# Altium footprint library Buzzer.PcbLib: 2 footprints
Each footprint in its own frame and in the unit in brackets; x right, y up, seen from the top. Pads: shape width x height; smd on the part's side, far side on the other; paste and mask are expansions set on the pad; w line width, h text height; cw(c..) or ccw(c..) is an arc to the next point about the centre after c.
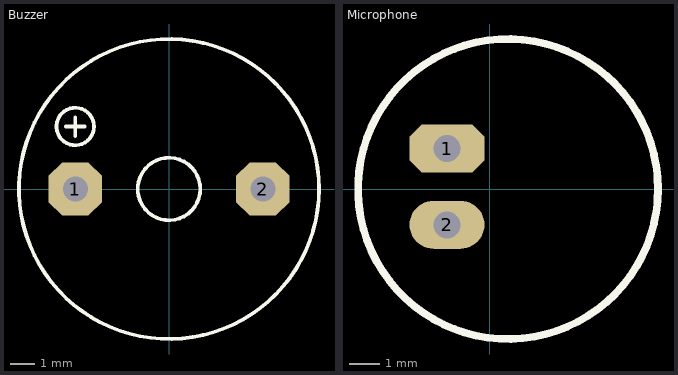
[diagram p0: the footprints below, top view; thin cyan lines are the x and y axes]

## Buzzer [mil]
height 354.33
pads (2):
  oct 85x85 hole 40: 1(-150,0) 2(150,0)
Top Overlay:
  circle w6: c-150,100 r30
  circle w6: c0,0 r50
  circle w6: c0,0 r240
  lines w6: -165,100 -135,100 ; -150,85 -150,115
3D body "User Library-Pushbutton-3.STEP": height 393.7, standoff -78.74, extent -232.28,-232.28 232.29,232.29

## Microphone [mm]
pads (2):
  oct 2.5x1.6 hole 0.9: 1(-1.422,1.346)
  oval 2.5x1.6 hole 0.9: 2(-1.422,-1.194)
Top Overlay:
  circle w0.254: c0.61,0 r5
3D body "User Library-Panasonic_Microphone_WM52BM.step": height 5.15, standoff -4.02, extent -4.24,-4.799 5.46,4.901